# Altium footprint library PCB - CONNECTOR - SAMTEC PHF-102-01-S-S.PCBLIB: 1 footprints
Each footprint in its own frame and in the unit in brackets; x right, y up, seen from the top. Pads: shape width x height; smd on the part's side, far side on the other; paste and mask are expansions set on the pad; w line width, h text height; cw(c..) or ccw(c..) is an arc to the next point about the centre after c.
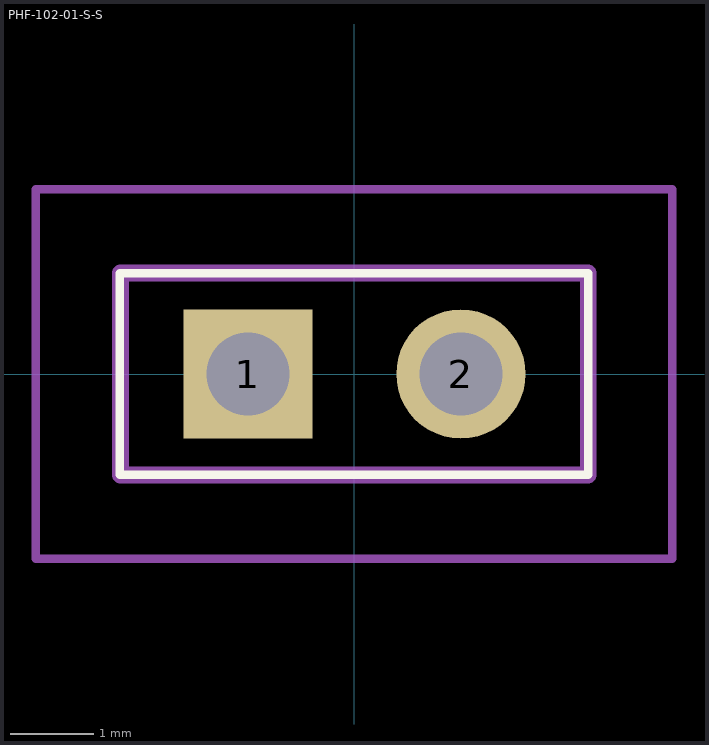
[diagram p0: the footprint, top view; thin cyan lines are the x and y axes]

## PHF-102-01-S-S [mil]
pads (2):
  rect 60.71x60.71 hole 39.02: 1(-50,0)
  round 60.71 hole 39.02: 2(50,0)
Top Overlay:
  lines w3.94: -110.24,-47.24 -110.24,47.24 109.84,47.24 109.84,-47.24 -110.24,-47.24
Top Assembly:
  lines w7.87: -109.84,-47.44 -109.84,47.44 109.84,47.44 109.84,-47.44 -109.84,-47.44
Top Courtyard:
  lines w3.94: -149.61,-86.81 -149.61,86.81 149.21,86.81 149.21,-86.81 -149.61,-86.81
Top Designator:
  text ".Designator" at -145,165 h39.37
Top Value (Mech13):
  text ".Comment" at -145,125 h39.37
3D body "PHF-102-01-S-S.stp": height 338.98, standoff -196.85, extent -109.84,-47.44 109.85,47.44